# EAGLE library part TRAFO-TALEMA-20635 (library 1A-meinLib)
Ringkerntransformator 300VA, 2x12V, Typ: 20635?P1S02, 2,5 kg, Ø115 x 58, Talema
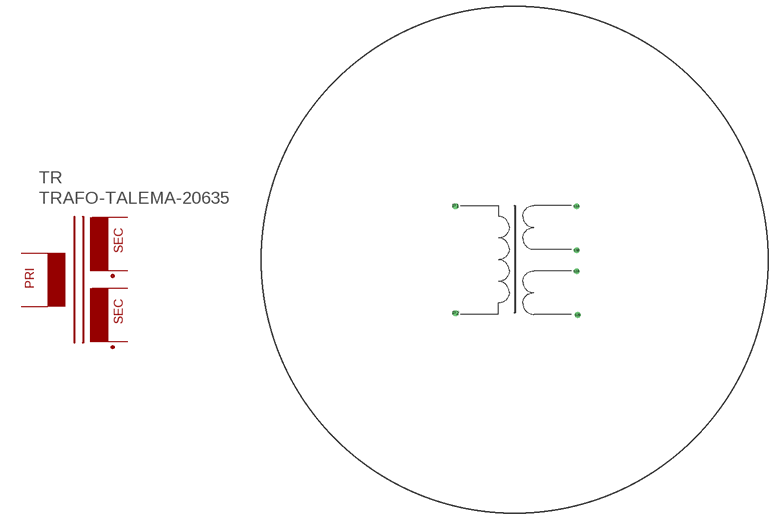
[diagram p270: symbol with the pads of TRAFO-TELEMA-20635; footprint TRAFO-TELEMA-20635]

Designator prefix TR

## TRAFO-TALEMA-20635  [TRAFO-TELEMA-20635]
P1  PA  pas
P2  PB  pas
S1A  S1A  pas
S1B  S1B  pas
S2A  S2A  pas
S2B  S2B  pas

## Footprint TRAFO-TELEMA-20635 (pad centres in mm)
drill 0.8 round: P1 -13.635,12.365; P2 -13.635,-12.365; S1A 14.27,12.365; S1B 14.27,2.205; S2A 14.27,-2.635; S2B 14.54,-12.73